# EAGLE library part SFIOT_MODULE (library SFThing)
SparkFun ESP8266 Thing, WRL-13231, WiFi microcontroller
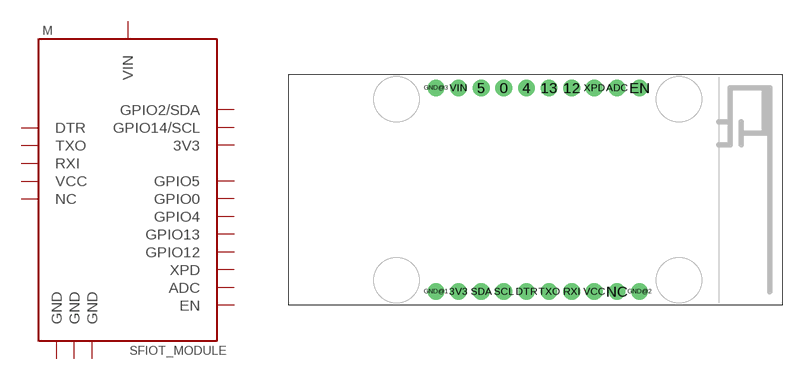
[diagram p0: symbol with the pads of SFIOT_MODULE; footprint SFIOT_MODULE]

Designator prefix M

## SFIOT_MODULE  [SFIOT_MODULE]
0  GPIO0
3V3  3V3
4  GPIO4
5  GPIO5
12  GPIO12
13  GPIO13
ADC  ADC
DTR  DTR
EN  EN
GND@1  GND
GND@2  GND
GND@3  GND
NC  NC
RXI  RXI
SCL  GPIO14/SCL
SDA  GPIO2/SDA
TXO  TXO
VCC  VCC
VIN  VIN
XPD  XPD

## Footprint SFIOT_MODULE (pad centres in mm)
drill 1.016 pad 1.88: 0 -2.54,11.43; 3V3 -7.62,-11.43; 4 0,11.43; 5 -5.08,11.43; 12 5.08,11.43; 13 2.54,11.43; ADC 10.16,11.43; DTR 0,-11.43; EN 12.7,11.43; GND@1 -10.16,-11.43; GND@2 12.7,-11.43; GND@3 -10.16,11.43; NC 10.16,-11.43; RXI 5.08,-11.43; SCL -2.54,-11.43; SDA -5.08,-11.43; TXO 2.54,-11.43; VCC 7.62,-11.43; VIN -7.62,11.43; XPD 7.62,11.43